# Altium footprint library PcbLib1.PcbLib: 28 footprints (part 1 of 2)
Each footprint in its own frame and in the unit in brackets; x right, y up, seen from the top. Pads: shape width x height; smd on the part's side, far side on the other; paste and mask are expansions set on the pad; w line width, h text height; cw(c..) or ccw(c..) is an arc to the next point about the centre after c.
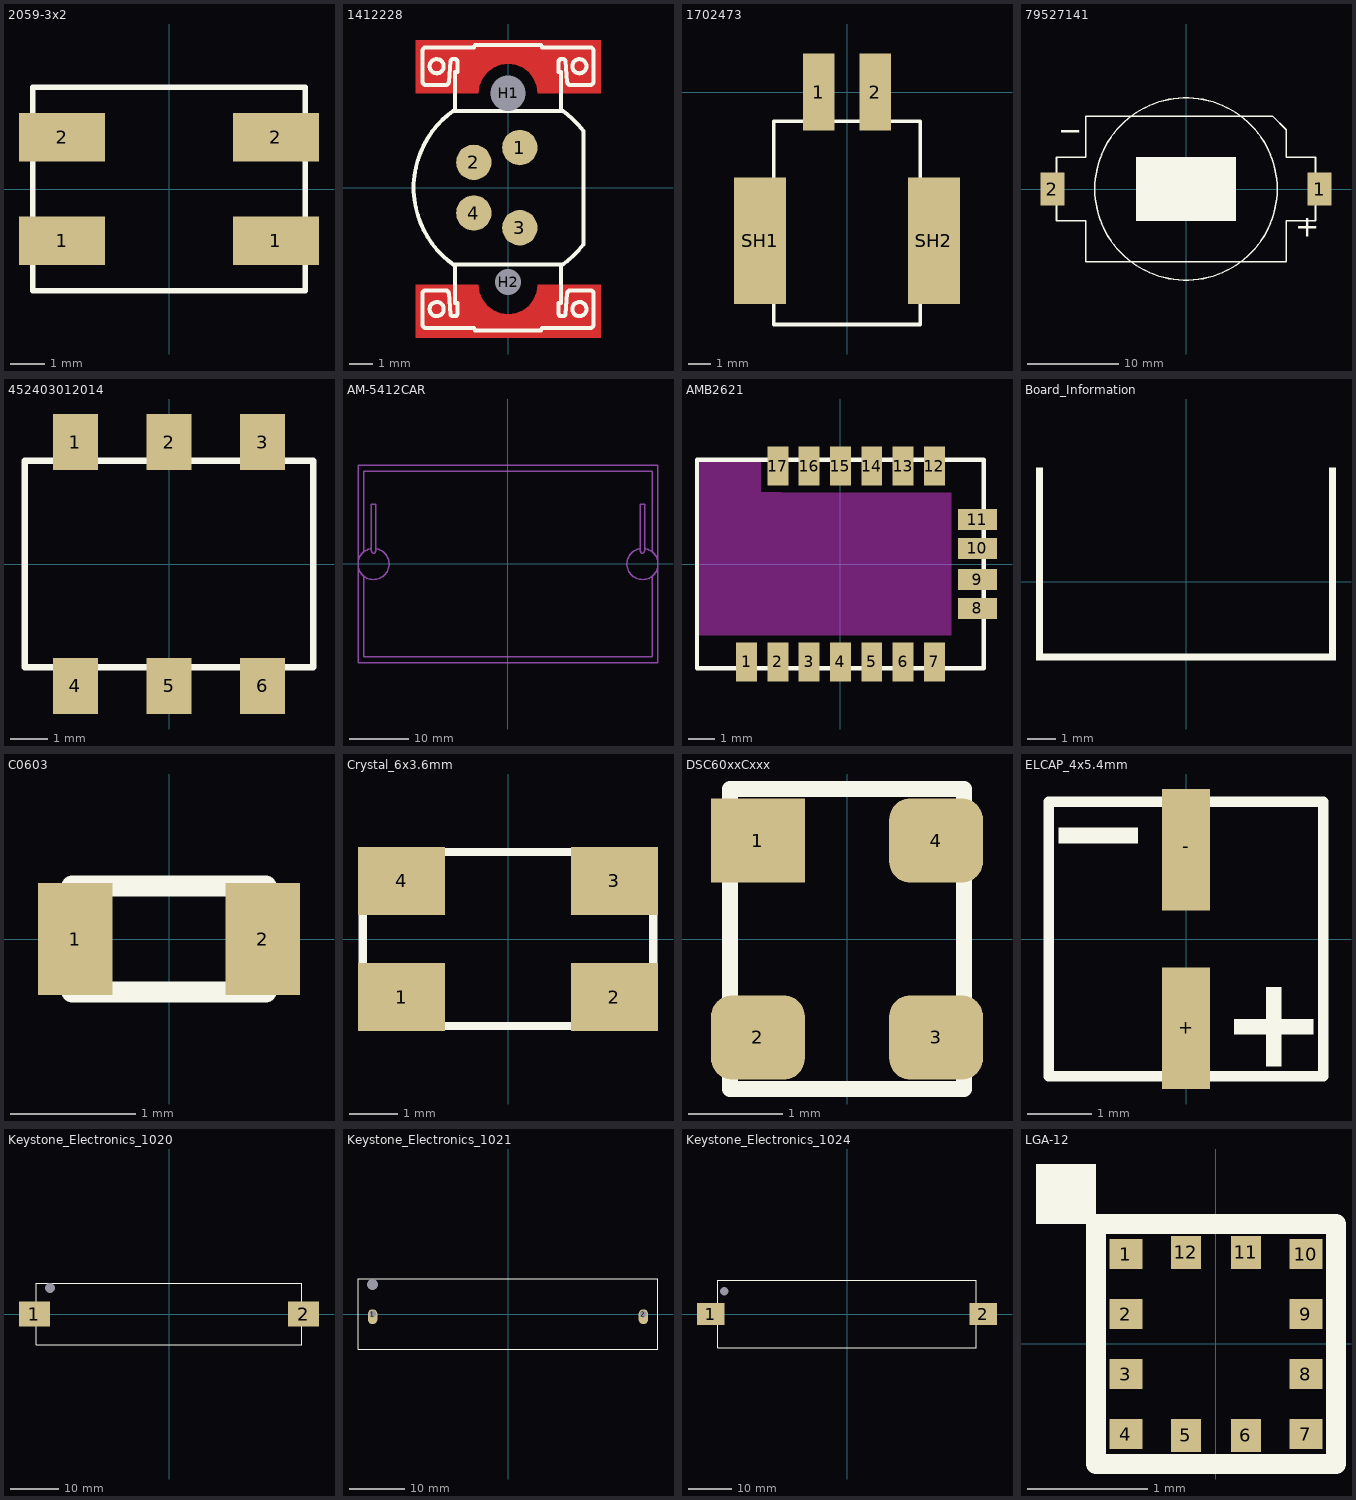
[diagram p0: the footprints below, top view; thin cyan lines are the x and y axes]

## 2059-3x2 [mm]
pads (4):
  rect 2.5x1.4 smd: 1(-3.1,-1.5) 1(3.1,-1.5) 2(-3.1,1.5) 2(3.1,1.5)
Top Overlay:
  lines w0.17: -3.95,-2.95 3.95,-2.95 3.95,2.95 -3.95,2.95 -3.95,-2.95
3D body: height 2.65, standoff -0.05, extent -3.95,-2.95 3.9,2.95

## 1412228 [mm]
pads (6):
  round 1.5 smd: 1(0.5,1.7) 2(-1.45,1.075) 3(0.5,-1.7) 4(-1.45,-1.075)
  round 1 hole 1.5 unplated: H1(0,4)
  round 1 hole 1.1 unplated: H2(0,-4)
Top Layer:
  region: 3.931,3.994 1.267,3.994 1.224,4.32 1.098,4.624 0.898,4.885 0.637,5.086 0.333,5.211 0.006,5.254 -0.32,5.211 -0.624,5.086 -0.885,4.885 -1.086,4.624 -1.211,4.32 -1.254,3.994 -3.919,3.994 -3.919,6.244 3.931,6.244
  region: 3.931,-6.356 -3.919,-6.356 -3.919,-4.106 -1.254,-4.106 -1.211,-4.433 -1.086,-4.737 -0.885,-4.998 -0.624,-5.198 -0.32,-5.324 0.006,-5.367 0.333,-5.324 0.637,-5.198 0.898,-4.998 1.098,-4.737 1.224,-4.433 1.267,-4.106 3.931,-4.106
Top Overlay:
  circle w0.17: c3.025,5.15 r0.3
  circle w0.17: c-3.025,5.15 r0.3
  circle w0.17: c-3.025,-5.15 r0.3
  circle w0.17: c3.025,-5.15 r0.3
  lines w0.17: -2.25,-3.307 cw(c0,0) -2.25,3.307 ; 2.25,-3.307 ccw(c0,0) 3.2,-2.4 3.2,2.4 ccw(c0,0) 2.25,3.307 ; -3.625,-5.8 ccw(c-3.475,-5.8) -3.475,-5.95 -1.436,-5.95 -1.4,-6.05 1.4,-6.05 1.436,-5.95 3.475,-5.95 ccw(c3.475,-5.8) 3.625,-5.8 3.625,-4.5 ccw(c3.475,-4.5) 3.475,-4.35 2.659,-4.35 ccw(c2.659,-4.5) 2.509,-4.487 2.433,-5.359 cw(c2.333,-5.35) 2.333,-5.45 2.25,-5.45 cw(c2.25,-5.35) 2.15,-5.35 2.15,-4.9 2.25,-4.9 2.25,-4.794 2.25,-4.106 2.25,-4 2.25,-3.25 -2.25,-3.25 -2.25,-4 -2.25,-4.106 -2.25,-4.794 -2.25,-4.9 -2.15,-4.9 -2.15,-5.35 cw(c-2.25,-5.35) -2.25,-5.45 -2.333,-5.45 cw(c-2.333,-5.35) -2.433,-5.359 -2.509,-4.487 ccw(c-2.659,-4.5) -2.659,-4.35 -3.475,-4.35 ccw(c-3.475,-4.5) -3.625,-4.5 -3.625,-5.8 ; -3.625,4.5 ccw(c-3.475,4.5) -3.475,4.35 -2.659,4.35 ccw(c-2.659,4.5) -2.509,4.487 -2.433,5.359 cw(c-2.333,5.35) -2.333,5.45 -2.25,5.45 cw(c-2.25,5.35) -2.15,5.35 -2.15,4.9 -2.25,4.9 -2.25,4.794 -2.25,4.106 -2.25,4 -2.25,3.25 2.25,3.25 2.25,4 2.25,4.106 2.25,4.794 2.25,4.9 2.15,4.9 2.15,5.35 cw(c2.25,5.35) 2.25,5.45 2.333,5.45 cw(c2.333,5.35) 2.433,5.359 2.509,4.487 ccw(c2.659,4.5) 2.659,4.35 3.475,4.35 ccw(c3.475,4.5) 3.625,4.5 3.625,5.8 ccw(c3.475,5.8) 3.475,5.95 1.436,5.95 1.4,6.05 -1.4,6.05 -1.436,5.95 -3.475,5.95 ccw(c-3.475,5.8) -3.625,5.8 -3.625,4.5
Top Paste:
  region: 3.931,3.994 1.267,3.994 1.224,4.32 1.098,4.624 0.898,4.885 0.637,5.086 0.333,5.211 0.006,5.254 -0.32,5.211 -0.624,5.086 -0.885,4.885 -1.086,4.624 -1.211,4.32 -1.254,3.994 -3.919,3.994 -3.919,6.244 3.931,6.244
  region: 3.931,-6.356 -3.919,-6.356 -3.919,-4.106 -1.254,-4.106 -1.211,-4.433 -1.086,-4.737 -0.885,-4.998 -0.624,-5.198 -0.32,-5.324 0.006,-5.367 0.333,-5.324 0.637,-5.198 0.898,-4.998 1.098,-4.737 1.224,-4.433 1.267,-4.106 3.931,-4.106
Top Solder:
  region: 3.991,-4.046 3.991,-6.416 -3.979,-6.416 -3.979,-4.046 -1.186,-4.046 -1.194,-4.106 -1.153,-4.417 -1.033,-4.706 -0.842,-4.955 -0.594,-5.146 -0.304,-5.266 0.006,-5.307 0.317,-5.266 0.606,-5.146 0.855,-4.955 1.046,-4.706 1.166,-4.417 1.207,-4.106 1.199,-4.046
  region: 3.991,3.934 1.199,3.933 1.207,3.994 1.166,4.304 1.046,4.594 0.855,4.842 0.606,5.033 0.317,5.153 0.006,5.194 -0.304,5.153 -0.594,5.033 -0.842,4.842 -1.033,4.594 -1.153,4.304 -1.194,3.994 -1.186,3.934 -1.182,3.934 -1.186,3.933 -1.186,3.934 -3.979,3.934 -3.979,6.304 3.991,6.304
Mechanical 21:
  region: -1.182,-4.046 -1.186,-4.046
3D body: height 17, standoff -1.3, extent -4,-6.05 4,6.05

## 1702473 [mm]
pads (4):
  rect 1.4x3.4 smd: 1(-1.25,0) 2(1.25,0)
  rect 2.3x5.6 smd: SH1(-3.85,-6.6) SH2(3.85,-6.6)
Top Overlay:
  lines w0.17: -3.25,-10.3 -3.25,-1.3 3.25,-1.3 3.25,-10.3 -3.25,-10.3
3D body: height 5, standoff 0, extent -4.7,-10.3 4.7,0.7

## 79527141 [mm]
pads (2):
  rect 2.6x3.6 smd: 1(14.65,0) 2(-14.65,0)
Top Overlay:
  circle w0.17: c0,0 r10
  rectangle: -5.5,-3.5 5.5,3.5
  lines w0.17: -14.2,-3.5 -11,-3.5 -11,-8 11,-8 11,-3.5 14.2,-3.5 14.2,3.5 11,3.5 11,6.5 9.5,8 -11,8 -11,3.5 -14.2,3.5 -14.2,-3.5
  text "−" at -14,4.5 h4
  text "+" at 12,-6 h4
3D body: height 5.5, standoff -0.15, extent -15.95,-8 15.95,8
3D body: height 4.95, standoff 1.75, extent -10,-10 10,10

## 452403012014 [mm]
pads (6):
  rect 1.2x1.5 smd: 1(-2.5,3.25) 2(0,3.25) 3(2.5,3.25) 4(-2.5,-3.25) 5(0,-3.25) 6(2.5,-3.25)
Top Overlay:
  lines w0.17: -3.85,-2.75 3.85,-2.75 3.85,2.75 -3.85,2.75 -3.85,-2.75
3D body: height 3.3, standoff 0, extent -3.85,-3.75 3.85,3.75

## AM-5412CAR [mm]
Mechanical 23:
  drawing of 387 lines, arcs and shapes, not listed
3D body: height 1.8, standoff -1.2, extent -25.1,-16.55 25.1,16.55

## AMB2621 [mm]
pads (17):
  rect 0.8x1.5 smd: 1(-3.6,-3.75) 2(-2.4,-3.75) 3(-1.2,-3.75) 4(0,-3.75) 5(1.2,-3.75) 6(2.4,-3.75) 7(3.6,-3.75) 12(3.6,3.75) 13(2.4,3.75) 14(1.2,3.75) 15(0,3.75) 16(-1.2,3.75) 17(-2.4,3.75)
  rect 1.5x0.8 smd: 8(5.25,-1.7) 9(5.25,-0.6) 10(5.25,0.6) 11(5.25,1.7)
Top Layer keep-out:
  rectangle: -5.5,-2.75 4.25,2.75
Top Overlay:
  lines w0.17: -5.5,-4 -5.5,4 5.5,4 5.5,-4 -5.5,-4
Keep-Out Layer:
  region: -5.5,4 -5.5,-2 -2.27,-2 -2.27,2.75 -3.05,2.75 -3.05,4
3D body: height 1.8, standoff 0, extent -5.5,-4 5.5,4

## Board_Information [mm]
Top Overlay:
  rectangle: 5,-2.75 5.25,4
  rectangle: -5.25,-2.75 -5,4
  rectangle: -5,-2.75 5,-2.5
  text ".Revision" at -2.25,-1.75 h2
  text ".Print_Date" at -5,0 h2
  text ".ShortName" at -5,2 h2

## C0603 [mm]
pads (2):
  rect 0.6x0.9 smd: 1(-0.75,0) 2(0.75,0)
Top Overlay:
  lines w0.17: -0.775,-0.425 0.775,-0.425 0.775,0.425 -0.775,0.425 -0.775,-0.425
3D body: height 0.5, standoff 0, extent -0.8,-0.4 0.8,0.4

## Crystal_6x3.6mm [mm]
pads (4):
  rect 1.8x1.4 smd: 1(-2.2,-1.2) 2(2.2,-1.2) 3(2.2,1.2) 4(-2.2,1.2)
Top Overlay:
  lines w0.17: -3,-1.8 3,-1.8 3,1.8 -3,1.8 -3,-1.8
3D body: height 1.2, standoff 0, extent -3,-1.8 3,1.8

## DSC60xxCxxx [mm]
pads (4):
  rect 1x0.9 smd: 1(-0.95,1.05)
  rrect50% 1x0.9 smd: 2(-0.95,-1.05) 3(0.95,-1.05) 4(0.95,1.05)
Top Overlay:
  lines w0.17: -1.25,-1.6 -1.25,1.6 1.25,1.6 1.25,-1.6 -1.25,-1.6

## ELCAP_4x5.4mm [mm]
pads (2):
  rect 0.75x1.9 smd mask+0.08: +(0,-1.4) -(0,1.4)
Top Overlay:
  rectangle: -2,1.5 -0.75,1.75
  rectangle: 0.75,-1.5 2,-1.25
  rectangle: 1.25,-2 1.5,-0.75
  lines w0.17: -2.15,-2.15 2.15,-2.15 2.15,2.15 -2.15,2.15 -2.15,-2.15
3D body: height 5.4, standoff 0, extent -2.15,-2.15 2.15,2.15

## Keystone_Electronics_1020 [mm]
pads (3):
  rect 6.35x5.08 smd: 1(-27.57,0) 2(27.57,0)
  round 1 hole 2 unplated: H(-24.395,5.31)
Top Overlay:
  lines w0.17: -27.178,-6.35 27.178,-6.35 27.178,6.35 -27.178,6.35 -27.178,-6.35
3D body: height 11.18, standoff 0, extent -27.178,-6.35 27.178,6.35

## Keystone_Electronics_1021 [mm]
pads (3):
  oval 1.7x2.7 hole 1.2 copper offset 0,-0.5: 1(-24.55,0) 2(24.55,0)
  round 1 hole 2 unplated: H(-24.55,5.31)
Top Overlay:
  lines w0.17: -27.2,-6.35 -27.2,6.35 27.2,6.35 27.2,-6.35 -27.2,-6.35
3D body: height 11.62, standoff -3.2, extent -27.15,-6.375 27.15,6.375

## Keystone_Electronics_1024 [mm]
pads (3):
  rect 6.35x5.08 smd: 1(-31.623,0) 2(31.623,0)
  round 1 hole 2 unplated: H(-28.448,5.31)
Top Overlay:
  lines w0.17: -29.959,-7.772 -29.959,7.772 29.959,7.772 29.959,-7.772 -29.959,-7.772
3D body: height 14.86, standoff 0, extent -29.959,-7.772 29.959,7.772

## LGA-12 [mm]
pads (12):
  rect 0.275x0.25 smd mask+0.08: 1(-0.75,0.75) 2(-0.75,0.25) 3(-0.75,-0.25) 4(-0.75,-0.75) 7(0.75,-0.75) 8(0.75,-0.25) 9(0.75,0.25) 10(0.75,0.75)
  rect 0.25x0.275 smd mask+0.08: 5(-0.25,-0.763) 6(0.25,-0.763) 11(0.25,0.763) 12(-0.25,0.763)
Top Overlay:
  rectangle: -1.5,1 -1,1.5
  lines w0.17: -1,-1 1,-1 1,1 -1,1 -1,-1
3D body: height 0.95, standoff 0, extent -1,-1 1,1